# Altium footprint library S5B-ZR-SM4A-TF_LF__SN_.PcbLib: 1 footprints
Each footprint in its own frame and in the unit in brackets; x right, y up, seen from the top. Pads: shape width x height; smd on the part's side, far side on the other; paste and mask are expansions set on the pad; w line width, h text height; cw(c..) or ccw(c..) is an arc to the next point about the centre after c.
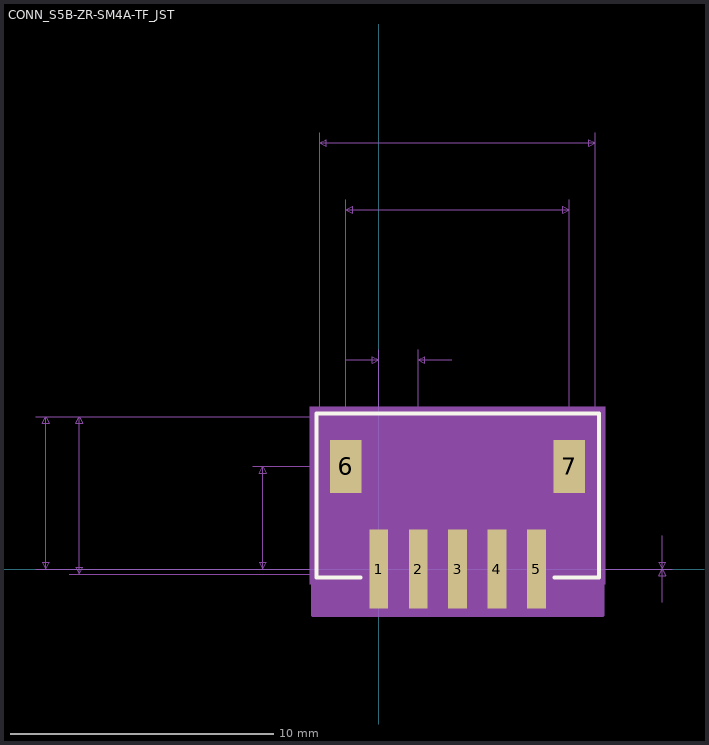
[diagram p0: the footprint, top view; thin cyan lines are the x and y axes]

## CONN_S5B-ZR-SM4A-TF_JST [mil]
pads (7):
  rect 28x118 smd paste+0 mask+0: 1(0,0) 2(59.06,0) 3(118.11,0) 4(177.17,0) 5(236.22,0)
  rect 47x79 smd: 6(-49.21,153.62) 7(285.43,153.62)
Top Overlay:
  lines w6: -27.1,-12.69 -93.39,-12.69 -93.39,233.31 329.61,233.31 329.61,-12.69 263.32,-12.69
Mechanical 5:
  region: -103.39,243.31 339.61,243.31 339.61,-22.69 -103.39,-22.69
Mechanical 7:
  lines w1: -513.71,0 118.11,0 -188.71,0 ; -513.71,228.31 -88.39,228.31 ; -463.71,-7.69 -88.39,-7.69 ; -463.71,228.31 -88.39,228.31 ; -188.71,153.62 285.43,153.62 285.43,553.31 ; -88.39,653.31 -88.39,228.31 ; -50,313.31 0,313.31 ; -49.21,153.62 -49.21,553.31 ; 0,328.31 0,0 ; 59.06,0 59.06,328.31 ; 109.06,313.31 59.06,313.31 ; 324.61,228.31 324.61,653.31 ; 424.61,-50 424.61,0 ; 424.61,50 424.61,0 ; -498.71,0 -493.71,10 -503.71,10 -498.71,0 ; -498.71,0 -498.71,228.31 ; -498.71,228.31 -493.71,218.31 -503.71,218.31 -498.71,228.31 ; -448.71,-7.69 -443.71,2.31 -453.71,2.31 -448.71,-7.69 ; -448.71,-7.69 -448.71,228.31 ; -448.71,228.31 -443.71,218.31 -453.71,218.31 -448.71,228.31 ; -173.71,0 -168.71,10 -178.71,10 -173.71,0 ; -173.71,0 -173.71,153.62 ; -173.71,153.62 -168.71,143.62 -178.71,143.62 -173.71,153.62 ; -88.39,638.31 -78.39,633.31 -78.39,643.31 -88.39,638.31 ; -88.39,638.31 324.61,638.31 ; -49.21,538.31 -39.21,533.31 -39.21,543.31 -49.21,538.31 ; -49.21,538.31 285.43,538.31 ; 0,0 439.61,0 0,0 ; 0,313.31 -10,308.31 -10,318.31 0,313.31 ; 59.06,313.31 69.06,308.31 69.06,318.31 59.06,313.31 ; 285.43,538.31 275.43,533.31 275.43,543.31 285.43,538.31 ; 324.61,638.31 314.61,633.31 314.61,643.31 324.61,638.31 ; 424.61,0 429.61,-10 419.61,-10 424.61,0 ; 424.61,0 429.61,10 419.61,10 424.61,0
  text "0.236in/5.994mm" at -656.21,97.81 h25
  text "0.228in/5.799mm" at -706.21,101.65 h25
  text "0.154in/3.902mm" at -381.21,64.31 h25
  text "0in/0mm" at 444.61,-12.5 h25
  text "0.413in/10.49mm" at 24.36,658.31 h25
  text "0.335in/8.5mm" at 36.86,558.31 h25
  text "0.059in/1.5mm" at -51.72,333.31 h25
  text "Alt Padstyle 2: OX90Y60D30P" at -219.39,-744 h50
  text "Alt Padstyle 1: OX60Y90D30P" at -219.39,-669 h50
  text "Right Mtg Padstyle: EX60Y60D30P" at -269.39,-594 h50
  text "Left Mtg Padstyle: EX60Y60D30P" at -256.89,-519 h50
  text "3rd Mtg Padstyle: EX70Y70D70P" at -244.39,-444 h50
  text "2nd Mtg Padstyle: EX70Y70D70P" at -244.39,-369 h50
  text "1st Mtg Padstyle: RX79Y47D0T" at -231.89,-294 h50
  text "Default Padstyle: RX28Y118D0T" at -244.39,-219 h50
Mechanical 13:
  circle w20: c0,75 r15
  lines w1: -88.39,-7.69 -88.39,228.31 324.61,228.31 324.61,-7.69 -88.39,-7.69
Mechanical 15:
  region: 334.93,238.31 -98.71,238.31 -98.71,-69 334.93,-69
  lines w6: -98.71,-69 334.93,-69 334.93,238.31 -98.71,238.31 -98.71,-69
3D body: height 10, standoff 0, extent 0,0 10,10